# EAGLE library part PE4301_SO08 (library PFC-ICs)
High precision CCM- PFC- Controller, very low supply current, internal reference
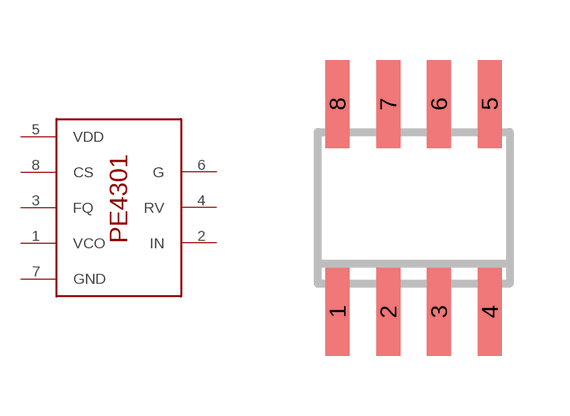
[diagram p1: symbol with the pads of PE4301_SO08; footprint PE4301_SO08]

Designator prefix -

## PE4301_SO08  [PE4301_SO08]
1  VCO
2  IN
3  FQ
4  RV
5  VDD
6  G
7  GND
8  CS

## Footprint PE4301_SO08 (pad centres in mm)
smd 0.6 x 2.2: 1 -1.905,-2.6; 2 -0.635,-2.6; 3 0.635,-2.6; 4 1.905,-2.6; 5 1.905,2.6; 6 0.635,2.6; 7 -0.635,2.6; 8 -1.905,2.6